# Altium integrated library TFM-150-22-L-D-A.IntLib: 1 symbol
Pins are listed as number, name and electrical type; pins without a type are passive.

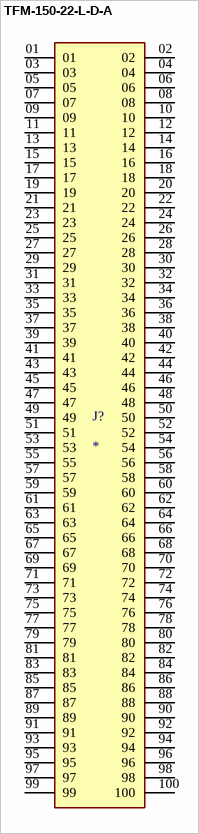
[diagram p0: symbol TFM-150-22-L-D-A]

## TFM-150-22-L-D-A
designator J?
Connector Header Surface Mount 100 position 0.050 (1.27mm); MF: Samtec; MP: TFM-150-22-L-D-A; Check_prices: https://www.snapeda.com/parts/TFM-150-22-L-D-A/Samtec/view-part/?ref=eda; Availability: In Stock; Price: None; Package: None; Value: *; Purchase-URL: https://pricing.snapeda.com/search/part/TFM-150-22-L-D-A/?ref=eda; SnapEDA_Link: https://www.snapeda.com/parts/TFM-150-22-L-D-A/Samtec/view-part/?ref=snap
footprint SAMTEC_TFM-150-22-L-D-A
pins: 01, 02, 03, 04, 05, 06, 07, 08, 09, 10, 11, 12, 13, 14, 15, 16, 17, 18, 19, 20, 21, 22, 23, 24, 25, 26, 27, 28, 29, 30, 31, 32, 33, 34, 35, 36, 37, 38, 39, 40, 41, 42, 43, 44, 45, 46, 47, 48, 49, 50, 51, 52, 53, 54, 55, 56, 57, 58, 59, 60, 61, 62, 63, 64, 65, 66, 67, 68, 69, 70, 71, 72, 73, 74, 75, 76, 77, 78, 79, 80, 81, 82, 83, 84, 85, 86, 87, 88, 89, 90, 91, 92, 93, 94, 95, 96, 97, 98, 99, 100